# EAGLE library part RN-42 (library Neel)
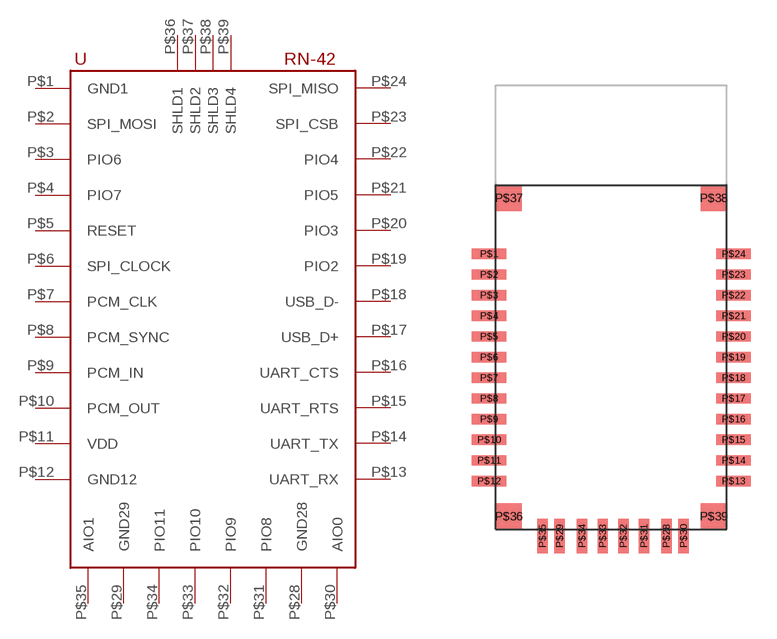
[diagram p7: symbol with the pads of RN-42; footprint RN-42]

Designator prefix -

## RN-42  [RN-42]
P$1  GND1
P$2  SPI_MOSI
P$3  PIO6
P$4  PIO7
P$5  RESET
P$6  SPI_CLOCK
P$7  PCM_CLK
P$8  PCM_SYNC
P$9  PCM_IN
P$10  PCM_OUT
P$11  VDD
P$12  GND12
P$13  UART_RX
P$14  UART_TX
P$15  UART_RTS
P$16  UART_CTS
P$17  USB_D+
P$18  USB_D-
P$19  PIO2
P$20  PIO3
P$21  PIO5
P$22  PIO4
P$23  SPI_CSB
P$24  SPI_MISO
P$28  GND28
P$29  GND29
P$30  AIO0
P$31  PIO8
P$32  PIO9
P$33  PIO10
P$34  PIO11
P$35  AIO1
P$36  SHLD1
P$37  SHLD2
P$38  SHLD3
P$39  SHLD4

## Footprint RN-42 (pad centres in mm)
smd 2 x 0.6: P$1 -0.4,16; P$2 -0.4,14.8; P$3 -0.4,13.6; P$4 -0.4,12.4; P$5 -0.4,11.2; P$6 -0.4,10; P$7 -0.4,8.8; P$8 -0.4,7.6; P$9 -0.4,6.4; P$10 -0.4,5.2; P$11 -0.4,4; P$12 -0.4,2.8; P$13 13.8,2.8; P$14 13.8,4; P$15 13.8,5.2; P$16 13.8,6.4; P$17 13.8,7.6; P$18 13.8,8.8; P$19 13.8,10; P$20 13.8,11.2; P$21 13.8,12.4; P$22 13.8,13.6; P$23 13.8,14.8; P$24 13.8,16
smd 0.6 x 2: P$28 9.9,-0.4; P$29 3.7,-0.4; P$30 10.9,-0.4; P$31 8.6,-0.4; P$32 7.4,-0.4; P$33 6.2,-0.4; P$34 5,-0.4; P$35 2.7,-0.4
smd 1.5 x 1.5: P$36 0.75,0.75; P$37 0.75,19.25; P$38 12.65,19.25; P$39 12.65,0.75